# Altium footprint library ESP-12S Module.PcbLib: 1 footprints
Each footprint in its own frame and in the unit in brackets; x right, y up, seen from the top. Pads: shape width x height; smd on the part's side, far side on the other; paste and mask are expansions set on the pad; w line width, h text height; cw(c..) or ccw(c..) is an arc to the next point about the centre after c.
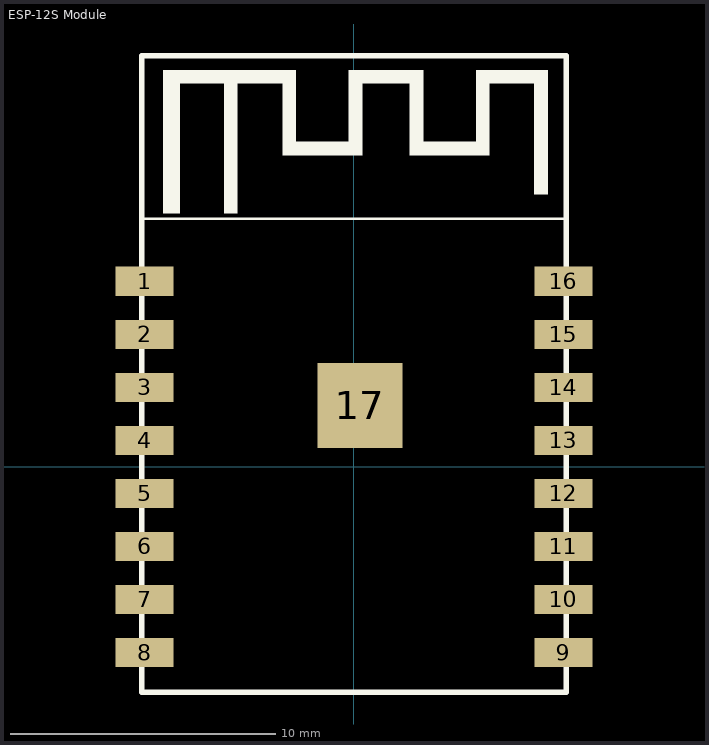
[diagram p0: the footprint, top view; thin cyan lines are the x and y axes]

## ESP-12S Module [mm]
pads (17):
  rect 2.2x1.1 smd: 1(-7.9,7) 2(-7.9,5) 3(-7.9,3) 4(-7.9,1) 5(-7.9,-1) 6(-7.9,-3) 7(-7.9,-5) 8(-7.9,-7) 9(7.9,-7) 10(7.9,-5) 11(7.9,-3) 12(7.9,-1) 13(7.9,1) 14(7.9,3) 15(7.9,5) 16(7.9,7)
  rect 3.2x3.2 smd: 17(0.22,2.321)
Top Overlay:
  region: -7.196,14.716 -7.196,9.563 -6.569,9.563 -6.569,14.716
  region: -7.196,14.463 -7.196,14.963 -2.196,14.963 -2.196,12.263 -0.196,12.263 -0.196,14.963 2.604,14.963 2.604,12.263 4.604,12.263 4.604,14.963 7.304,14.963 7.304,10.29 6.804,10.29 6.804,14.463 5.104,14.463 5.104,11.763 2.104,11.763 2.104,14.463 0.304,14.463 0.304,11.763 -2.696,11.763 -2.696,14.463 -4.396,14.463 -4.396,9.563 -4.896,9.563 -4.896,14.463
  lines w0.1: -8,9.354 8,9.354
  lines w0.2: -8,-8.496 -8,15.504 8,15.504 8,-8.496 -8,-8.496